# Altium schematic symbol library ERA-3AEB153V.SchLib: 3 symbols
Pins are listed as number, name and electrical type; pins without a type are passive.

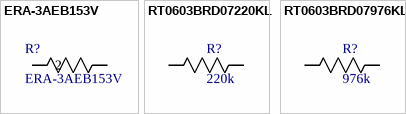
[diagram p0: symbols ERA-3AEB153V to RT0603BRD07976KL]

## ERA-3AEB153V
designator R?
No Description Available; Manufacturer_Name: Panasonic; Copyright: Copyright (C) 2025 Ultra Librarian. All rights reserved.; Manufacturer_Part_Number: ERA-3AEB153V
footprint RC0603N_PAN
pins: 1, 2

## RT0603BRD07220KL
designator R?, comment 220k
Manufacturer_Part_Number: RT0603BRD07220KL
footprint RC0603N_PAN
pins: 1, 2

## RT0603BRD07976KL
designator R?, comment 976k
Manufacturer_Part_Number: RT0603BRD07976KL
footprint RC0603N_PAN
pins: 1, 2